# Altium schematic symbol library STM32U585RIT6Q.SchLib: 1 symbol
Pins are listed as number, name and electrical type; pins without a type are passive.

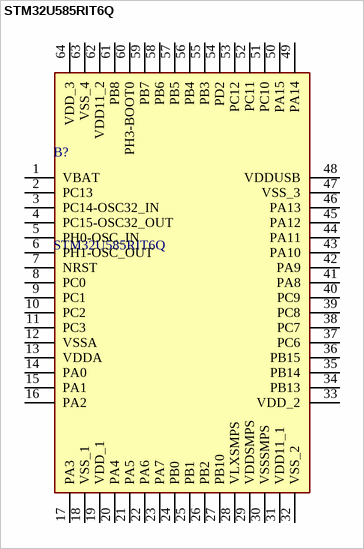
[diagram p0: symbol STM32U585RIT6Q]

## STM32U585RIT6Q
designator B?
Ultra-low-power Arm Cortex-M33 32-bit MCU+TrustZone+FPU, 240 DMIPS, up to 2 MB Flash memory, 786 KB SRAM, crypto; Manufacturer_Name: STMicroelectronics; Geometry.Height: 1.6mm; Manufacturer_Part_Number: STM32U585RIT6Q; Mouser Part Number: 511-STM32U585RIT6Q; Mouser Price/Stock: https://www.mouser.co.uk/ProductDetail/STMicroelectronics/STM32U585RIT6Q?qs=DRkmTr78QAQaadRm6JNuUg%3D%3D; Arrow Part Number: *; Arrow Price/Stock: *; Datasheet Link: https://www.st.com/resource/en/datasheet/stm32u585ai.pdf
footprint QFP50P1200X1200X160-64N
pins: 1 VBAT, 2 PC13, 3 PC14-OSC32_IN, 4 PC15-OSC32_OUT, 5 PH0-OSC_IN, 6 PH1-OSC_OUT, 7 NRST, 8 PC0, 9 PC1, 10 PC2, 11 PC3, 12 VSSA, 13 VDDA, 14 PA0, 15 PA1, 16 PA2, 17 PA3, 18 VSS_1, 19 VDD_1, 20 PA4, 21 PA5, 22 PA6, 23 PA7, 24 PB0, 25 PB1, 26 PB2, 27 PB10, 28 VLXSMPS, 29 VDDSMPS, 30 VSSSMPS, 31 VDD11_1, 32 VSS_2, 33 VDD_2, 34 PB13, 35 PB14, 36 PB15, 37 PC6, 38 PC7, 39 PC8, 40 PC9, 41 PA8, 42 PA9, 43 PA10, 44 PA11, 45 PA12, 46 PA13, 47 VSS_3, 48 VDDUSB, 49 PA14, 50 PA15, 51 PC10, 52 PC11, 53 PC12, 54 PD2, 55 PB3, 56 PB4, 57 PB5, 58 PB6, 59 PB7, 60 PH3-BOOT0, 61 PB8, 62 VDD11_2, 63 VSS_4, 64 VDD_3